# Altium schematic symbol library Schlib1.SchLib: 14 symbols
Pins are listed as number, name and electrical type; pins without a type are passive.

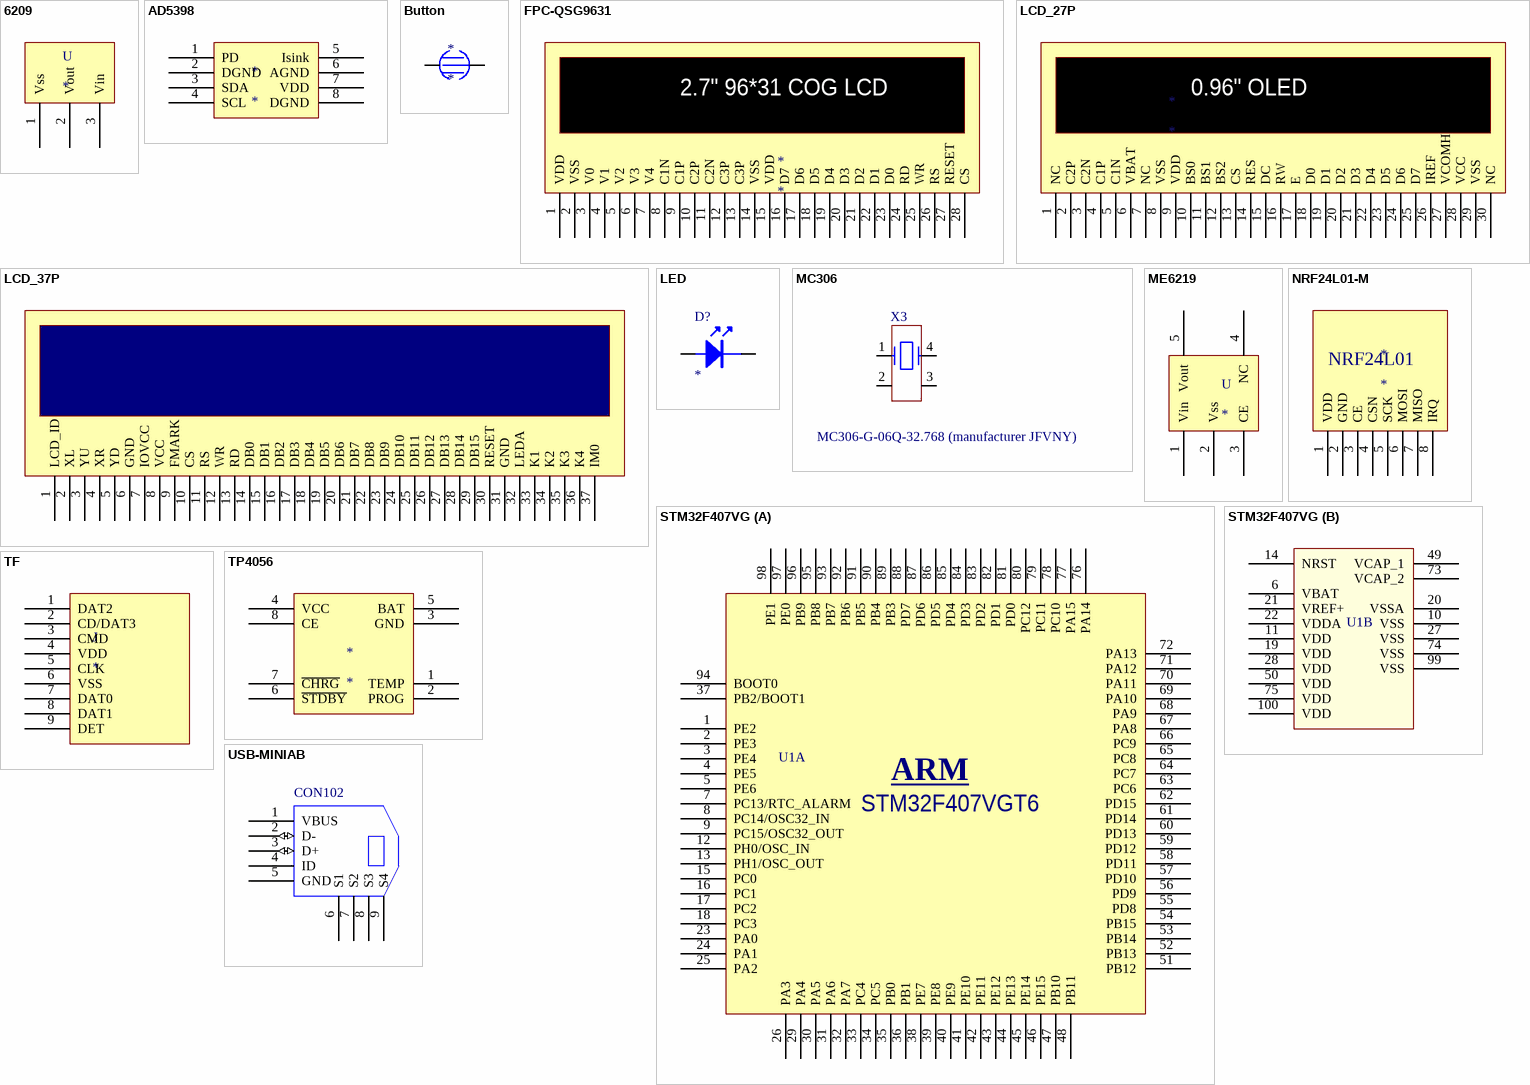
[diagram p0: symbols 6209 to USB-MINIAB]

## 6209
designator U
footprint SOT-23
pins: 1 Vss, 2 Vout, 3 Vin

## AD5398
designator *
footprint SO-8
pins: 1 PD, 2 DGND, 3 SDA, 4 SCL, 5 Isink, 6 AGND, 7 VDD, 8 DGND

## Button
designator *
footprint Button
pins: 1, 2

## FPC-QSG9631
designator *
pins: 1 VDD, 2 VSS, 3 V0, 4 V1, 5 V2, 6 V3, 7 V4, 8 C1N, 9 C1P, 10 C2P, 11 C2N, 12 C3P, 13 C3P, 14 VSS, 15 VDD, 16 D7, 17 D6, 18 D5, 19 D4, 20 D3, 21 D2, 22 D1, 23 D0, 24 RD, 25 WR, 26 RS, 27 RESET, 28 CS
text: 2.7" 96*31 COG LCD

## LCD_27P
designator *
footprint OLED_30P
pins: 1 NC, 2 C2P, 3 C2N, 4 C1P, 5 C1N, 6 VBAT, 7 NC, 8 VSS, 9 VDD, 10 BS0, 11 BS1, 12 BS2, 13 CS, 14 RES, 15 DC, 16 RW, 17 E, 18 D0, 19 D1, 20 D2, 21 D3, 22 D4, 23 D5, 24 D6, 25 D7, 26 IREF, 27 VCOMH, 28 VCC, 29 VSS, 30 NC
text: 0.96" OLED

## LCD_37P
designator *
footprint LCD_37P
pins: 1 LCD_ID, 2 XL, 3 YU, 4 XR, 5 YD, 6 GND, 7 IOVCC, 8 VCC, 9 FMARK, 10 CS, 11 RS, 12 WR, 13 RD, 14 DB0, 15 DB1, 16 DB2, 17 DB3, 18 DB4, 19 DB5, 20 DB6, 21 DB7, 22 DB8, 23 DB9, 24 DB10, 25 DB11, 26 DB12, 27 DB13, 28 DB14, 29 DB15, 30 RESET, 31 GND, 32 LEDA, 33 K1, 34 K2, 35 K3, 36 K4, 37 IM0

## LED
designator D?
LED
footprint 0805D
pins: A 1, K 2

## MC306
designator X3, comment MC306-G-06Q-32.768 (manufacturer JFVNY)
footprint SM8 (Footprint not found)
pins: 1, 2, 3, 4

## ME6219
designator U
footprint SOT-23-5
pins: 1 Vin, 2 Vss, 3 CE, 4 NC, 5 Vout

## NRF24L01-M
designator *
footprint NRF24L01
pins: 1 VDD, 2 GND, 3 CE, 4 CSN, 5 SCK, 6 MOSI, 7 MISO, 8 IRQ
text: NRF24L01

## STM32F407VG
designator U1  (value not drawn)
ARM Cortex-M3 Microcontroller
footprint 100T1_L (100-Pin Thin Quad Flat Pack 0.5 mm Pitch, IPC High Density)
part A pins: 1 PE2, 2 PE3, 3 PE4, 4 PE5, 5 PE6, 7 PC13/RTC_ALARM, 8 PC14/OSC32_IN, 9 PC15/OSC32_OUT, 12 PH0/OSC_IN, 13 PH1/OSC_OUT, 15 PC0, 16 PC1, 17 PC2, 18 PC3, 23 PA0, 24 PA1, 25 PA2, 26 PA3, 29 PA4, 30 PA5, 31 PA6, 32 PA7, 33 PC4, 34 PC5, 35 PB0, 36 PB1, 37 PB2/BOOT1, 38 PE7, 39 PE8, 40 PE9, 41 PE10, 42 PE11, 43 PE12, 44 PE13, 45 PE14, 46 PE15, 47 PB10, 48 PB11, 51 PB12, 52 PB13, 53 PB14, 54 PB15, 55 PD8, 56 PD9, 57 PD10, 58 PD11, 59 PD12, 60 PD13, 61 PD14, 62 PD15, 63 PC6, 64 PC7, 65 PC8, 66 PC9, 67 PA8, 68 PA9, 69 PA10, 70 PA11, 71 PA12, 72 PA13, 76 PA14, 77 PA15, 78 PC10, 79 PC11, 80 PC12, 81 PD0, 82 PD1, 83 PD2, 84 PD3, 85 PD4, 86 PD5, 87 PD6, 88 PD7, 89 PB3, 90 PB4, 91 PB5, 92 PB6, 93 PB7, 94 BOOT0, 95 PB8, 96 PB9, 97 PE0, 98 PE1
part B pins: 6 VBAT, 10 VSS, 11 VDD, 14 NRST, 19 VDD, 20 VSSA, 21 VREF+, 22 VDDA, 27 VSS, 28 VDD, 49 VCAP_1, 50 VDD, 73 VCAP_2, 74 VSS, 75 VDD, 99 VSS, 100 VDD
part A text: ARM; STM32F407VGT6

## TF
designator J
footprint TF-2
pins: 1 DAT2, 2 CD/DAT3, 3 CMD, 4 VDD, 5 CLK, 6 VSS, 7 DAT0, 8 DAT1, 9 DET

## TP4056
designator *
footprint SO-8
pins: 1 TEMP, 2 PROG, 3 GND, 4 VCC, 5 BAT, 6 ~{STDBY}, 7 ~{CHRG}, 8 CE

## USB-MINIAB
designator CON102  (value not drawn)
PCB DECAL: HIROSE-US60B-MB-5ST; Source_Path: Z:\ORCAD\CONNECTOR.OLB; Value: miniAB
footprint USB-MICRO
pins: 1 VBUS, 2 D- (io), 3 D+ (io), 4 ID, 5 GND (power), 6 S1, 7 S2, 8 S3, 9 S4